# Altium footprint library diode.PcbLib: 6 footprints
Each footprint in its own frame and in the unit in brackets; x right, y up, seen from the top. Pads: shape width x height; smd on the part's side, far side on the other; paste and mask are expansions set on the pad; w line width, h text height; cw(c..) or ccw(c..) is an arc to the next point about the centre after c.
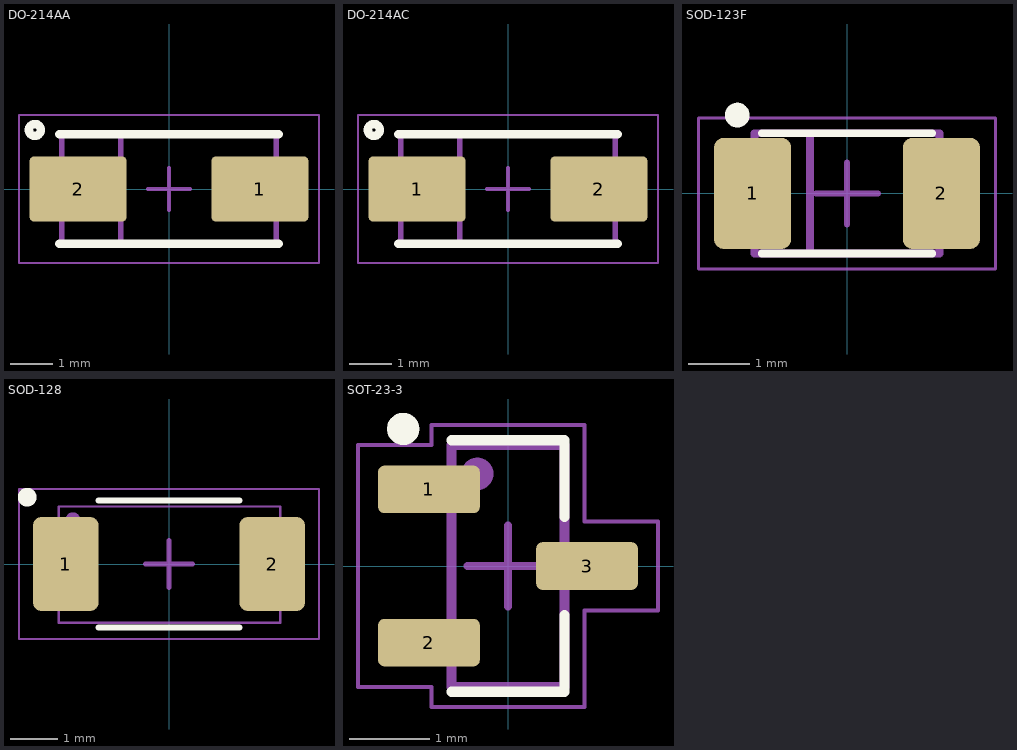
[diagram p0: the footprints below, top view; thin cyan lines are the x and y axes]

## DO-214AA [mm]
pads (2):
  rrect15% 2.3x1.55 smd: 1(2.15,0) 2(-2.15,0)
Top Overlay:
  circle w0.2: c-3.175,1.397 r0.141
  lines w0.2: -2.6,-1.3 2.6,-1.3 ; -2.6,1.3 2.6,1.3
Top Assembly:
  lines w0.127: -0.6,1.27 -2.54,1.27 -2.54,-1.27 -1.143,-1.27 ; -1.143,-1.27 2.54,-1.27 2.54,1.27 -1.143,1.27 -1.143,-1.27
  text ".Designator" at -0.738,-0.1 h0.3
Top Courtyard:
  lines w0.05: -3.55,-1.75 -3.55,1.75 3.55,1.75 3.55,-1.75 -3.55,-1.75
  lines w0.1: -0.5,0 0.5,0 ; 0,-0.5 0,0.5
3D body "step_temp.STEP": height 2.21, standoff 0, extent -2.603,-1.308 2.603,1.308

## DO-214AC [mm]
pads (2):
  rrect15% 2.3x1.55 smd: 1(-2.15,0) 2(2.15,0)
Top Overlay:
  circle w0.2: c-3.175,1.397 r0.141
  lines w0.2: -2.6,-1.3 2.6,-1.3 ; -2.6,1.3 2.6,1.3
Top Assembly:
  lines w0.127: -0.6,1.27 -2.54,1.27 -2.54,-1.27 -1.143,-1.27 ; -1.143,-1.27 2.54,-1.27 2.54,1.27 -1.143,1.27 -1.143,-1.27
  text ".Designator" at -0.738,-0.1 h0.3
Top Courtyard:
  lines w0.05: -3.55,-1.75 -3.55,1.75 3.55,1.75 3.55,-1.75 -3.55,-1.75
  lines w0.1: -0.5,0 0.5,0 ; 0,-0.5 0,0.5
3D body "step_temp.STEP": height 2.21, standoff 0, extent -2.603,-1.308 2.603,1.308

## SOD-123F [mm]
pads (2):
  rrect25% 1.25x1.8 smd: 1(-1.53,0) 2(1.53,0)
Top Overlay:
  circle w0.2: c-1.778,1.27 r0.1
  lines w0.127: -1.38,-0.975 1.38,-0.975 ; -1.38,0.975 1.38,0.975
Top Assembly:
  lines w0.127: -0.6,-0.975 -1.5,-0.975 -1.5,0.975 -0.6,0.975 ; -0.6,-0.975 1.5,-0.975 1.5,0.975 -0.6,0.975 ; -0.6,-0.975 -0.6,0.975
  text ".Designator" at -1.119,-0.1 h0.3
Top Courtyard:
  lines w0.05: -2.405,-1.225 2.405,-1.225 2.405,1.225 -2.405,1.225 -2.405,-1.225
  lines w0.1: -0.5,0 0.5,0 ; 0,-0.5 0,0.5
3D body "S1MFL.STEP": height 1.08, standoff 0, extent -1.8,-0.863 1.8,0.863

## SOD-128 [mm]
pads (2):
  rrect25% 1.4x2 smd: 1(-2.2,0) 2(2.2,0)
Top Overlay:
  circle w0.2: c-3.025,1.425 r0.1
  lines w0.127: -1.5,-1.35 1.5,-1.35 ; -1.5,1.35 1.5,1.35
Top Assembly:
  circle w0.1: c-2.05,0.95 r0.103
  lines w0.05: -2.35,-1.25 2.375,-1.25 2.375,1.225 -2.35,1.225 -2.35,-1.25
  text ".Designator" at -1.119,-0.1 h0.3
Top Courtyard:
  lines w0.05: -3.2,-1.6 3.2,-1.6 3.2,1.6 -3.2,1.6 -3.2,-1.6
  lines w0.1: -0.5,0 0.5,0 ; 0,-0.5 0,0.5
3D body "RB058LAM-60.stp": height 0.95, standoff 0, extent -2.35,-1.25 2.35,1.246

## SOT-23-3 [mm]
height 1.1
pads (3):
  rrect25% 1.26x0.59 smd: 1(-0.98,0.95) 2(-0.98,-0.95) 3(0.98,0)
Top Overlay:
  circle w0.2: c-1.3,1.7 r0.1
  lines w0.127: -0.7,-1.559 0.7,-1.559 0.7,-0.609 ; -0.7,1.559 0.7,1.559 0.7,0.609
Top Assembly:
  circle w0.2: c-0.381,1.143 r0.1
  lines w0.127: -0.7,-1.5 -0.7,1.5 0.7,1.5 0.7,-1.5 -0.7,-1.5
  text ".Designator" at -1.5,-0.1 h0.3
Top Courtyard:
  lines w0.05: -1.86,-1.5 -0.95,-1.5 -0.95,-1.75 0.95,-1.75 0.95,-0.55 1.86,-0.55 1.86,0.55 0.95,0.55 0.95,1.75 -0.95,1.75 -0.95,1.5 -1.86,1.5 -1.86,-1.5
  lines w0.1: -0.5,0 0.5,0 ; 0,-0.5 0,0.5
3D body "SOT-SOT23-03-1003-2002-BA--3DModel-STEP-269445.STEP": height 0.89, standoff 0, extent -1.232,-1.429 1.232,1.429

## TO-277A [mm]